# Altium footprint library Test Board.PcbLib: 12 footprints
Each footprint in its own frame and in the unit in brackets; x right, y up, seen from the top. Pads: shape width x height; smd on the part's side, far side on the other; paste and mask are expansions set on the pad; w line width, h text height; cw(c..) or ccw(c..) is an arc to the next point about the centre after c.
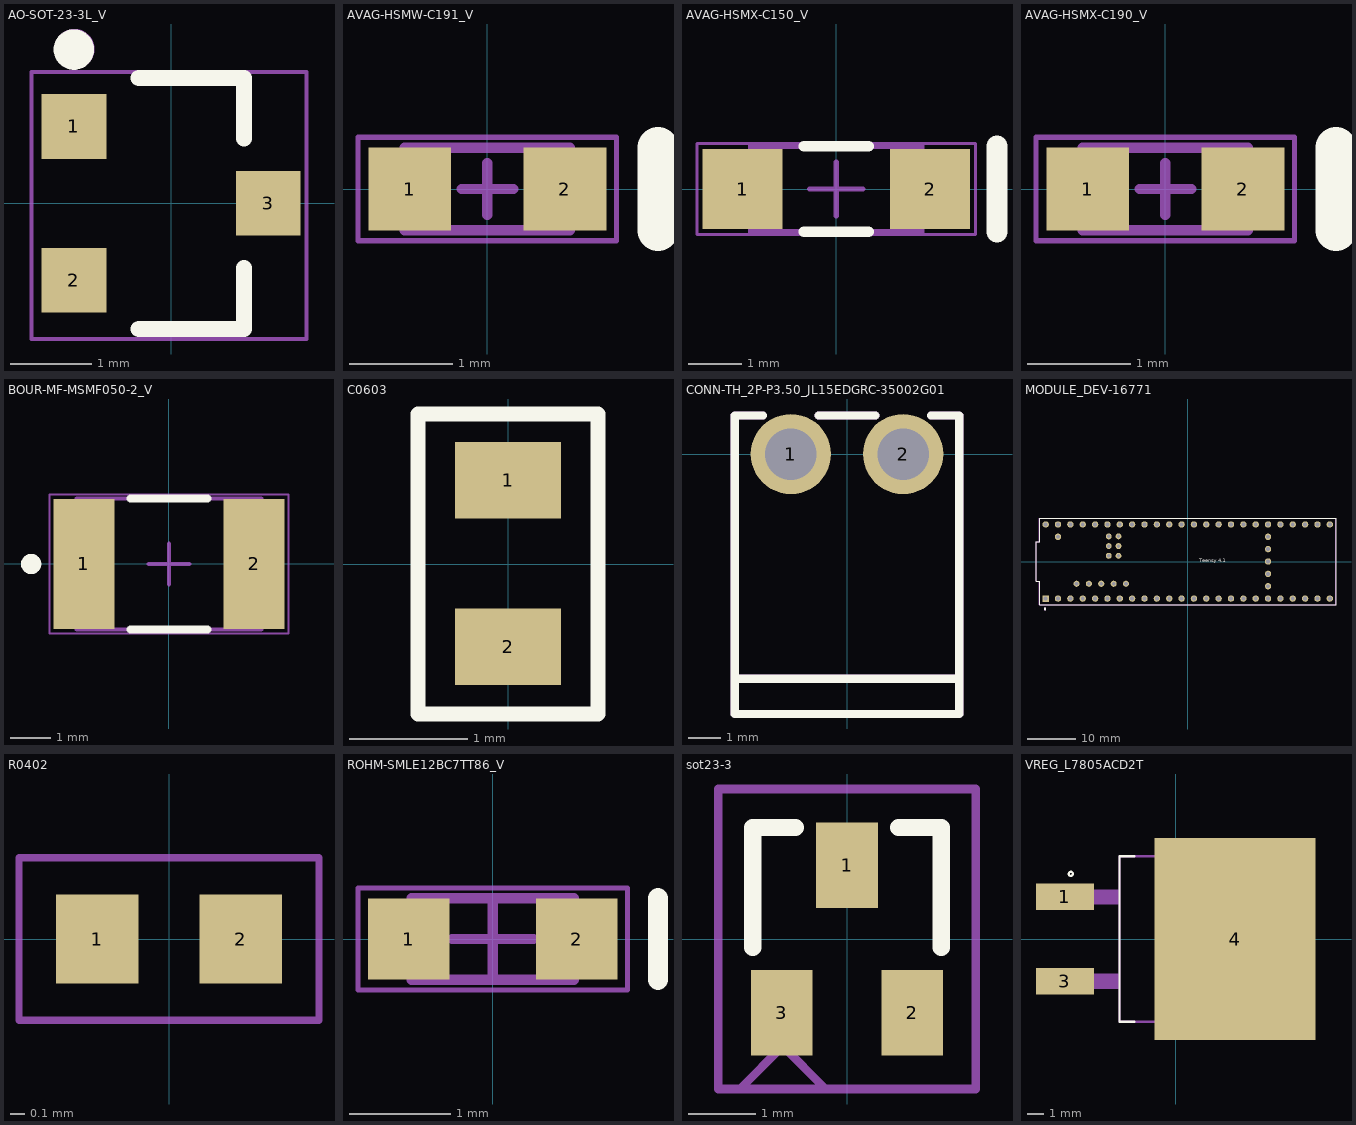
[diagram p0: the footprints below, top view; thin cyan lines are the x and y axes]

## AO-SOT-23-3L_V [mm] "SOT23, 3-Leads, Body 3.1x1.8mm, Pitch 0.95mm"
height 1.25
pads (3):
  rect 0.8x0.8 smd: 1(-1.2,0.95) 2(-1.2,-0.95) 3(1.2,0)
Top Overlay:
  circle w0.25: c-1.2,1.9 r0.125
  lines w0.2: -0.4,-1.55 0.9,-1.55 0.9,-0.8 ; -0.4,1.55 0.9,1.55 0.9,0.8
Top Assembly:
  circle w0.25: c-1.194,1.905 r0.125
  lines w0.05: -1.725,-1.675 -1.725,1.625 1.675,1.625 1.675,-1.675 -1.725,-1.675
  text "'.Designator'" at -3.023,-0.261 h1.52
3D body "SOT95P280X125-3L.step": height 1.25, standoff 0, extent -1.5,-1.575 1.5,1.525

## AVAG-HSMW-C191_V [mm] "SMD, 2-Leads, Body 1.6x0.8mm"
height 0.7
pads (2):
  rect 0.8x0.8 smd: 1(-0.75,0) 2(0.75,0)
Top Overlay:
  lines w0.4: 1.65,-0.4 1.65,0.4
Mechanical 13:
  lines w0.1: -0.55,-0.4 -0.55,0.4 ; 0.55,-0.4 0.55,0.4 ; -0.8,-0.4 -0.8,0.4 0.8,0.4 0.8,-0.4 -0.8,-0.4
Mechanical 15:
  lines w0.05: -1.25,-0.5 1.25,-0.5 1.25,0.5 -1.25,0.5 -1.25,-0.5
  lines w0.1: -0.25,0 0.25,0 ; 0,-0.25 0,0.25
3D body: height 0.7, standoff 0.3, extent -0.55,-0.4 0.55,0.4
3D body: height 0.3, standoff 0, extent -0.8,-0.4 0.8,0.4

## AVAG-HSMX-C150_V [mm] "SMD, 2-Leads, Body 3.2x1.6mm"
height 1.1
pads (2):
  rect 1.5x1.5 smd: 1(-1.75,0) 2(1.75,0)
Top Overlay:
  lines w0.2: -0.603,-0.8 0.603,-0.8 ; -0.603,0.8 0.603,0.8
  lines w0.4: 3,-0.8 3,0.8
Mechanical 13:
  lines w0.1: -1.6,-0.8 -1.6,0.8 1.6,0.8 1.6,-0.8 -1.6,-0.8
Mechanical 15:
  lines w0.05: -2.6,-0.85 -2.6,0.85 2.6,0.85 2.6,-0.85 -2.6,-0.85
  lines w0.1: -0.5,0 0.5,0 ; 0,-0.5 0,0.5
3D body: height 0.5, standoff 0, extent -1.599,-0.799 1.599,0.799
3D body: height 1.1, standoff 0.5, extent -0.999,-0.799 0.999,0.799

## AVAG-HSMX-C190_V [mm] "SMD, 2-Leads, Body 1.6x0.8mm, Height 0.9mm"
height 0.9
pads (2):
  rect 0.8x0.8 smd: 1(-0.75,0) 2(0.75,0)
Top Overlay:
  lines w0.4: 1.65,-0.4 1.65,0.4
Mechanical 13:
  lines w0.1: -0.8,-0.4 -0.8,0.4 0.8,0.4 0.8,-0.4 -0.8,-0.4
Mechanical 15:
  lines w0.05: -1.25,-0.5 1.25,-0.5 1.25,0.5 -1.25,0.5 -1.25,-0.5
  lines w0.1: -0.25,0 0.25,0 ; 0,-0.25 0,0.25
3D body: height 0.9, standoff 0.4, extent -0.55,-0.4 0.55,0.4
3D body: height 0.4, standoff 0, extent -0.8,-0.4 0.8,0.4

## BOUR-MF-MSMF050-2_V [mm] "SMD, 2-Leads, Body 4.55x3.24mm"
height 0.85
pads (2):
  rect 1.5x3.2 smd: 1(-2.1,0) 2(2.1,0)
Top Overlay:
  circle w0.25: c-3.4,0 r0.125
  lines w0.2: -0.95,-1.62 0.95,-1.62 ; -0.95,1.62 0.95,1.62
Mechanical 13:
  lines w0.1: -2.275,-1.62 2.275,-1.62 2.275,-0.497 cw(c2.275,0) 2.275,0.497 2.275,1.62 -2.275,1.62 -2.275,0.497 cw(c-2.275,0) -2.275,-0.497 -2.275,-1.62
Mechanical 15:
  lines w0.05: -2.95,-1.72 2.95,-1.72 2.95,1.72 -2.95,1.72 -2.95,-1.72
  lines w0.1: -0.5,0 0.5,0 ; 0,-0.5 0,0.5
3D body: height 0.85, standoff 0, extent -2.275,-1.62 -1.575,1.62
3D body: height 0.85, standoff 0, extent 1.575,-1.62 2.275,1.62
3D body: height 0.85, standoff 0, extent -1.575,-1.62 1.575,1.62

## C0603 [mm]
height 0.55
pads (2):
  rect 0.9x0.65 smd: 1(0,0.71) 2(0,-0.7)
Top Overlay:
  lines w0.127: -0.762,-1.27 -0.762,1.27 0.762,1.27 0.762,-1.27 -0.762,-1.27
3D body "CAPC17595_87N_KEM.step": height 0.87, standoff 0, extent -0.475,-0.875 0.475,0.875

## CONN-TH_2P-P3.50_JL15EDGRC-35002G01 [mm]
height 0.55
pads (2):
  round 2.5 hole 1.6: 1(-1.75,0) 2(1.75,0)
Top Overlay:
  lines w0.254: -3.5,-7 3.5,-7 ; -2.616,1.2 -3.5,1.2 -3.5,-8.1 3.5,-8.1 3.5,1.2 2.616,1.2 ; -0.884,1.2 0.884,1.2
Top Assembly:
  lines w0.254: -3.5,-7 3.5,-7 ; -2.616,1.2 -3.5,1.2 -3.5,-8.1 3.5,-8.1 3.5,1.2 2.616,1.2 ; -0.884,1.2 0.884,1.2
  text "'.Designator'" at -2.921,-4.223 h1.52
3D body "2350514-2--3DModel-STEP-1.STEP": height 6.91, standoff -3.49, extent -3.917,-8.029 3.683,1.171

## MODULE_DEV-16771 [mm]
height 0.55
pads (65):
  round 1.308 hole 0.8: 0(-26.67,-7.62) 1(-24.13,-7.62) 2(-21.59,-7.62) 3(-19.05,-7.62) 3.3V_1(6.35,-7.62) 3.3V_2(-24.13,7.62) 3.3V_3(16.51,-2.54) 4(-16.51,-7.62) 5(-13.97,-7.62) 6(-11.43,-7.62) 7(-8.89,-7.62) 8(-6.35,-7.62) 9(-3.81,-7.62) 10(-1.27,-7.62) 11(1.27,-7.62) 12(3.81,-7.62) 13(3.81,7.62) 14(1.27,7.62) 15(-1.27,7.62) 16(-3.81,7.62) 17(-6.35,7.62) 18(-8.89,7.62) 19(-11.43,7.62) 20(-13.97,7.62) 21(-16.51,7.62) 22(-19.05,7.62) 23(-21.59,7.62) 24(8.89,-7.62) 25(11.43,-7.62) 26(13.97,-7.62) 27(16.51,-7.62) 28(19.05,-7.62) 29(21.59,-7.62) 30(24.13,-7.62) 31(26.67,-7.62) 32(29.21,-7.62) 33(29.21,7.62) 34(26.67,7.62) 35(24.13,7.62) 36(21.59,7.62) 37(19.05,7.62) 38(16.51,7.62) 39(13.97,7.62) 40(11.43,7.62) 41(8.89,7.62) GND2(6.35,7.62) GND3(-26.67,7.62) GND4(16.51,0) ON/OFF(16.51,5.08) PROGRAM(16.51,2.54) VBAT(16.51,-5.08) VIN(-29.21,7.62) VUSB(-26.67,5.08)
  round 1.258 hole 0.75: 5V(-22.86,-4.57) D+(-17.78,-4.57) D-(-20.32,-4.57) USB_GND1(-15.24,-4.57) USB_GND2(-12.7,-4.57)
  rect 1.308x1.308 hole 0.8: GND1(-29.21,-7.62)
  round 1.208 hole 0.7: GND5(-14.24,3.17) LED(-16.24,3.17) R+(-16.24,5.17) R-(-14.24,5.17) T+(-14.24,1.17) T-(-16.24,1.17)
Top Overlay:
  circle w0.254: c-29.337,-9.754 r0.161
  lines w0.127: -31.18,-4.03 -31.18,4.03 -30.48,4.03 -30.48,8.89 30.48,8.89 30.48,-8.89 -30.48,-8.89 -30.48,-4.03 -31.18,-4.03
  text "Teensy 4.1" at 2.413,-0.508 h1.27
Top Assembly:
  circle w0.254: c-29.357,-9.754 r0.161
  lines w0.254: -31.2,-4.03 -31.2,4.03 -30.5,4.03 -30.5,8.89 30.46,8.89 30.46,-8.89 -30.5,-8.89 -30.5,-4.03 -31.2,-4.03
  text "'.Designator'" at -3.277,1.288 h1.52
3D body "DEV-16771--3DModel-STEP-418109 (1).STEP": height 4.37, standoff -9.48, extent -30.799,-9.017 30.861,8.763

## R0402 [mm] "Generic R0402 Resistor"
height 0.55
pads (2):
  rect 0.56x0.6 smd: 1(-0.485,0) 2(0.485,0)
Top Assembly:
  lines w0.05: -1.015,-0.55 -1.015,0.55 1.015,0.55 1.015,-0.55 -1.015,-0.55
  text "'.Designator'" at 0.388,-2.946 h1.52
3D body "RES_RC0402_1XP5_YAG.step": height 0.41, standoff 0, extent -0.521,-0.279 0.521,0.279

## ROHM-SMLE12BC7TT86_V [mm] "SMD, 2-Leads, Body 1.6x0.8mm"
height 0.4
pads (2):
  rect 0.8x0.8 smd: 1(-0.825,0) 2(0.825,0)
Top Overlay:
  lines w0.2: 1.625,-0.4 1.625,0.4
Mechanical 13:
  lines w0.1: -0.8,-0.4 0.8,-0.4 0.8,0.4 -0.8,0.4 -0.8,-0.4
  lines w0.2: 0.65,-0.35 0.65,0.35
Mechanical 15:
  lines w0.05: -1.325,-0.5 1.325,-0.5 1.325,0.5 -1.325,0.5 -1.325,-0.5
  lines w0.1: -0.4,0 0.4,0 ; 0,-0.4 0,0.4
3D body: height 0.4, standoff 0, extent -0.8,-0.4 0.8,0.4

## sot23-3 [mil]
height 21.65
pads (3):
  rect 36x50 smd: 1(0,43) 2(38,-43) 3(-38,-43)
Top Overlay:
  lines w10: -55,-5 -55,65 -30,65 ; 30,65 55,65 55,-5
Top Assembly:
  lines w5: -62.5,-87.5 -37.5,-62.5 -12.5,-87.5 ; -75,-87.5 -75,-12.5 -75,87.5 75,87.5 75,-87.5 -75,-87.5
  text "'.Designator'" at -118,-16.27 h60
3D body "SOT-23_ONS.step": height 44.09, standoff 0, extent -60,-52.01 60,52.01

## VREG_L7805ACD2T [mm]
height 0.55
pads (3):
  rect 3.5x1.6 smd: 1(-6.7,2.54) 3(-6.7,-2.54)
  rect 9.75x12.2 smd paste-7: 4(3.575,0)
Top Overlay:
  circle w0.127: c-6.35,3.937 r0.127
  lines w0.127: -2.515,-5 -3.4,-5 -3.4,5 -2.515,5
Top Paste:
  region: 7.22,0.295 5.85,0.295 5.85,1.765 7.22,1.765
  region: 7.22,-1.766 5.844,-1.766 5.844,-0.295 7.22,-0.295
  region: 5.25,-1.767 3.875,-1.767 3.875,-0.295 5.25,-0.295
  region: 5.25,0.295 3.876,0.295 3.876,1.765 5.25,1.765
  region: 5.25,2.362 3.874,2.362 3.874,3.83 5.25,3.83
  region: 7.22,2.362 5.844,2.362 5.844,3.83 7.22,3.83
  region: 5.25,-3.836 3.876,-3.836 3.876,-2.36 5.25,-2.36
  region: 7.22,-3.837 5.85,-3.837 5.85,-2.36 7.22,-2.36
  region: 1.31,-1.767 -0.07,-1.767 -0.07,-0.295 1.31,-0.295
  region: 1.31,0.296 -0.07,0.296 -0.07,1.765 1.31,1.765
  region: 3.28,0.295 1.902,0.295 1.902,1.765 3.28,1.765
  region: 3.28,-1.766 1.902,-1.766 1.902,-0.295 3.28,-0.295
  region: 3.28,-3.835 1.902,-3.835 1.902,-2.36 3.28,-2.36
  region: 1.31,-3.834 -0.07,-3.834 -0.07,-2.36 1.31,-2.36
  region: 3.28,2.362 1.901,2.362 1.901,3.83 3.28,3.83
  region: 1.31,2.362 -0.07,2.362 -0.07,3.83 1.31,3.83
Top Assembly:
  region: -3.4,-2.996 -8.216,-2.996 -8.216,-2.09 -3.4,-2.09
  region: -3.4,2.094 -8.215,2.094 -8.215,2.99 -3.4,2.99
  lines w0.127: -3.4,-5 -3.4,5 7.4,5 7.4,-5 -3.4,-5
  text "'.Designator'" at -1.676,0.323 h1.52
3D body "L7805CD2T-TR.STEP": height 4.61, standoff -0.21, extent -7.712,-5.1 7.712,5.1